# Altium footprint library 691 253 610 0xx.PcbLib: 2 footprints
Each footprint in its own frame and in the unit in brackets; x right, y up, seen from the top. Pads: shape width x height; smd on the part's side, far side on the other; paste and mask are expansions set on the pad; w line width, h text height; cw(c..) or ccw(c..) is an arc to the next point about the centre after c.
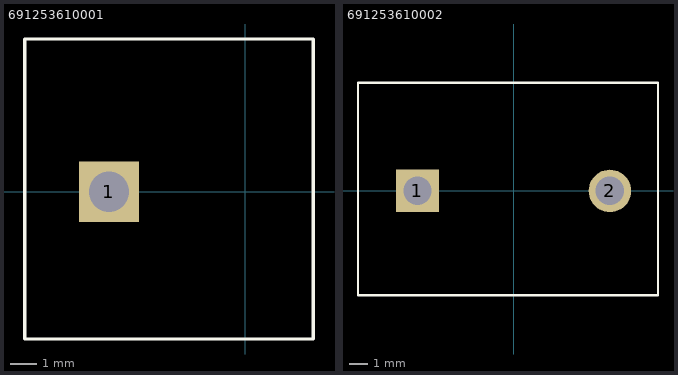
[diagram p0: the footprints below, top view; thin cyan lines are the x and y axes]

## 691253610001 [mm] "Serie 2536 - 10.16 mm _ 1 pins"
height 18
pads (1):
  rect 2.25x2.25 hole 1.5: 1(-5.08,0)
Top Overlay:
  lines w0.127: -8.22,-5.5 -8.22,5.7 2.54,5.7 2.54,-5.5 -8.22,-5.5
3D body: height 18.1, standoff -3.9, extent -8.2,-5.5 2.56,5.7

## 691253610002 [mm] "Serie 2536 - 10.16 mm _ 2 pins"
height 18
pads (2):
  rect 2.25x2.25 hole 1.5: 1(-5.08,0)
  round 2.25 hole 1.5: 2(5.08,0)
Top Overlay:
  lines w0.127: -8.22,-5.5 -8.22,5.7 7.62,5.7 7.62,-5.5 -8.22,-5.5
3D body: height 18.1, standoff -3.9, extent -8.2,-5.5 7.64,5.7